# Altium footprint library MAGNESIL XFMR.PcbLib: 1 footprints
Each footprint in its own frame and in the unit in brackets; x right, y up, seen from the top. Pads: shape width x height; smd on the part's side, far side on the other; paste and mask are expansions set on the pad; w line width, h text height; cw(c..) or ccw(c..) is an arc to the next point about the centre after c.
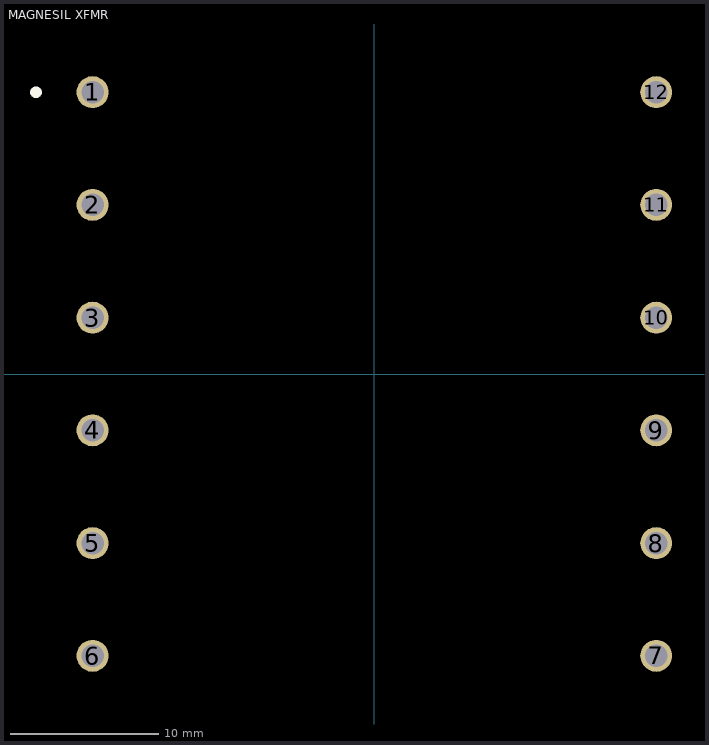
[diagram p0: the footprint, top view; thin cyan lines are the x and y axes]

## MAGNESIL XFMR [mil]
pads (12):
  round 85 hole 60: 1(-750,750) 2(-750,450) 3(-750,150) 4(-750,-150) 5(-750,-450) 6(-750,-750) 7(750,-750) 8(750,-450) 9(750,-150) 10(750,150) 11(750,450) 12(750,750)
Top Overlay:
  lines w30: -901,750 -900,750